# Altium footprint library alientek_sch_lib.PcbLib: 370 footprints (part 5 of 24)
Each footprint in its own frame and in the unit in brackets; x right, y up, seen from the top. Pads: shape width x height; smd on the part's side, far side on the other; paste and mask are expansions set on the pad; w line width, h text height; cw(c..) or ccw(c..) is an arc to the next point about the centre after c.
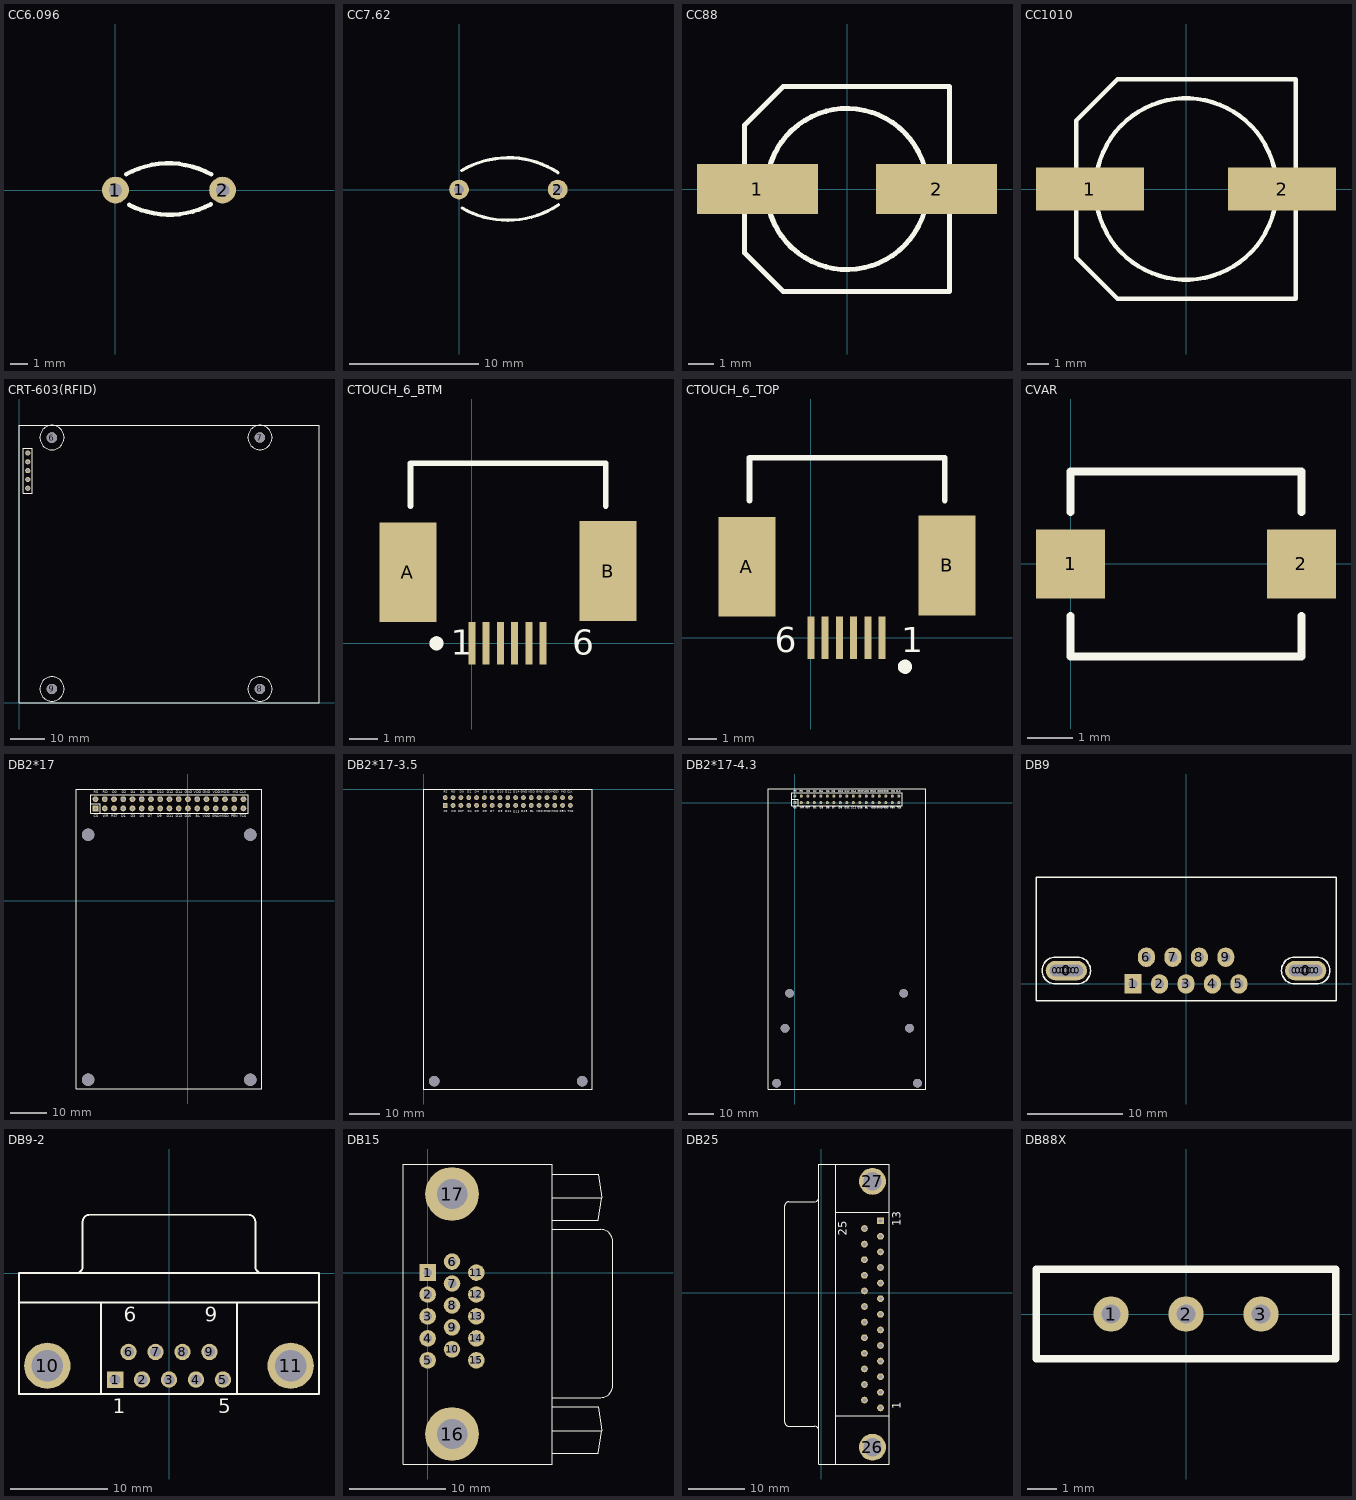
[diagram p4: the footprints below, top view; thin cyan lines are the x and y axes]

## CC6.096 [mil]
height 354.33
pads (2):
  round 60 hole 30: 1(0,0) 2(240,0)
Top Overlay:
  lines w10: 24.43,35.56 cw(c119.21,-136.97) 215,35 ; 30.81,-33.42 ccw(c120.66,141.73) 213.36,-31.93

## CC7.62 [mil]
height 472.44
pads (2):
  round 60 hole 30: 1(0,0) 2(300,0)
Top Overlay:
  lines w10: 8.27,57.9 cw(c149.46,-178.78) 300.95,51.44 ; 9.4,-56.03 ccw(c148.05,182.14) 302.41,-46.17

## CC88 [mm] "SMD;W:8mm;L:8mm;"
height 10
pads (2):
  rect 4.8x2 smd: 1(-3.556,0) 2(3.556,0)
Top Overlay:
  circle w0.2: c0,0 r3.2
  lines w0.2: -1.905,4.064 -2.54,4.064 ; -2.54,4.064 -4.064,2.54 -4.064,-2.54 -2.54,-4.064 4.064,-4.064 4.064,4.064 -2.54,4.064

## CC1010 [mm] "SMD;W:10mm;L:10mm;"
height 10
pads (2):
  rect 5x2 smd: 1(-4.445,0) 2(4.445,0)
Top Overlay:
  circle w0.2: c0,0 r4.2
  lines w0.2: -5.08,2.921 -5.08,3.175 ; -5.08,3.175 -5.08,-3.175 -3.175,-5.08 5.08,-5.08 5.08,5.08 -3.175,5.08 -5.08,3.175

## CRT-603(RFID) [mm] "RFID,"
pads (9):
  round 1.5 hole 0.9: 1(2.54,72) 2(2.54,69.46) 3(2.54,66.92) 4(2.54,64.38) 5(2.54,61.84)
  round 3 hole 3: 6(9.5,76.454) 7(69.469,76.468) 8(69.469,3.968) 9(9.5,3.968)
Top Overlay:
  circle w0.178: c69.469,76.468 r3.5
  circle w0.178: c9.5,76.454 r3.5
  circle w0.178: c9.5,3.968 r3.5
  circle w0.178: c69.469,3.968 r3.5
  lines w0.254: 0,0 0,80 86.5,80 86.5,0 0,0 ; 1.27,60.452 3.81,60.452 3.81,73.406 1.27,73.406 1.27,60.452

## CTOUCH_6_BTM [mm]
pads (8):
  rect 0.25x1.5 smd: 1(0,0) 2(0.5,0) 3(1,0) 4(1.5,0) 5(2,0) 6(2.5,0)
  rect 2x3.5 smd: A(-2.25,2.5) B(4.786,2.54)
Top Overlay:
  circle w0.25: c-1.243,0 r0.125
  lines w0.203: -2.159,4.826 -2.159,6.325 -1.214,6.325 4.699,6.325 4.699,4.826
  text "6" at 3.531,-0.406 h0.89
  text "1" at -0.737,-0.406 h0.89

## CTOUCH_6_TOP [mm]
pads (8):
  rect 0.25x1.5 smd: 1(2.5,0) 2(2,0) 3(1.5,0) 4(1,0) 5(0.5,0) 6(0,0)
  rect 2x3.5 smd: A(-2.25,2.5) B(4.786,2.54)
Top Overlay:
  circle w0.25: c3.304,-1.016 r0.125
  lines w0.203: -2.159,4.826 -2.159,6.325 -1.214,6.325 4.699,6.325 4.699,4.826
  text "6" at -1.27,-0.508 h0.89
  text "1" at 3.175,-0.508 h0.89

## CVAR [mil] "4MM*6.6MM"
pads (2):
  rect 60x60 smd: 1(0,0) 2(200,0)
Top Overlay:
  lines w7: 0,-45 0,-80 200,-80 200,-45 ; 0,45 0,80 200,80 200,45

## DB2*17 [mil] "DB_LCD-2.4'/2.8'"
height 590.55
pads (38):
  rect 62x62 hole 35: 1(-1000,1000)
  round 62 hole 35: 2(-1000,1100) 3(-900,1000) 4(-900,1100) 5(-800,1000) 6(-800,1100) 7(-700,1000) 8(-700,1100) 9(-600,1000) 10(-600,1100) 11(-500,1000) 12(-500,1100) 13(-400,1000) 14(-400,1100) 15(-300,1000) 16(-300,1100) 17(-200,1000) 18(-200,1100) 19(-100,1000) 20(-100,1100) 21(0,1000) 22(0,1100) 23(100,1000) 24(100,1100) 25(200,1000) 26(200,1100) 27(300,1000) 28(300,1100) 29(400,1000) 30(400,1100) 31(500,1000) 32(500,1100) 33(600,1000) 34(600,1100)
  round 133.86 hole 133.86: ""(-1080,-1935) ""(-1080,715) ""(675,-1935) ""(675,715)
Top Overlay:
  lines w6: -1050,1050 -950,1050 -950,950 ; -1050,950 -1050,1150 650,1150 650,950 -1050,950
  lines w10: -1210,-2030 -1205,-2035 800,-2035 800,1210 -625,1210 -1210,1210 -1210,-2030
  text "D14" at -132.87,1161.42 h28
  text "D7" at -433.07,905.51 h28
  text "RS" at -1018.7,1161.42 h28
  text "CS" at -1018.7,905.51 h28
  text "WR" at -920.28,905.51 h28
  text "RST" at -831.69,905.51 h28
  text "D1" at -723.43,905.51 h28
  text "D2" at -718.5,1161.42 h28
  text "D3" at -620.08,905.51 h28
  text "D4" at -620.08,1161.42 h28
  text "D5" at -521.65,905.51 h28
  text "D6" at -516.73,1161.42 h28
  text "D8" at -433.07,1161.42 h28
  text "D9" at -329.72,905.51 h28
  text "D13" at -132.87,905.51 h28
  text "D12" at -231.3,1161.42 h28
  text "D15" at -34.45,905.51 h28
  text "VDD" at 162.4,905.51 h28
  text "VDD" at 265.75,1161.42 h28
  text "GND" at 162.4,1161.42 h28
  text "VDD" at 63.98,1161.42 h28
  text "D10" at -334.65,1161.42 h28
  text "D0" at -816.93,1161.42 h28
  text "RD" at -920.28,1161.42 h28
  text "GND" at -34.45,1161.42 h28
  text "GND" at 260.83,905.51 h28
  text "D11" at -231.3,905.51 h28
  text "PEN" at 467.52,905.51 h28.03
  text "CLK" at 561.02,1161.42 h28.03
  text "MOSI" at 354.33,1161.42 h28.03
  text "MO" at 482.28,1161.42 h28.03
  text "TCS" at 561.02,905.51 h28.03
  text "MISO" at 349.41,905.51 h28.03
  text "BL" at 83.66,905.51 h28

## DB2*17-3.5 [mil] "DB_LCD-3.5'"
height 590.55
pads (36):
  rect 62x62 hole 35: 1(275,-210)
  round 62 hole 35: 2(275,-110) 3(375,-210) 4(375,-110) 5(475,-210) 6(475,-110) 7(575,-210) 8(575,-110) 9(675,-210) 10(675,-110) 11(775,-210) 12(775,-110) 13(875,-210) 14(875,-110) 15(975,-210) 16(975,-110) 17(1075,-210) 18(1075,-110) 19(1175,-210) 20(1175,-110) 21(1275,-210) 22(1275,-110) 23(1375,-210) 24(1375,-110) 25(1475,-210) 26(1475,-110) 27(1575,-210) 28(1575,-110) 29(1675,-210) 30(1675,-110) 31(1775,-210) 32(1775,-110) 33(1875,-210) 34(1875,-110)
  round 133.86 hole 133.86: ""(135,-3735) ""(2025,-3735)
Top Overlay:
  lines w10: 0,-3835 2155,-3835 2155,0 650,0 0,0 0,-3835
  text "D14" at 1142.13,-48.58 h28
  text "D7" at 850,-300 h28
  text "RS" at 256.3,-48.58 h28
  text "CS" at 255,-300 h28
  text "WR" at 355,-300 h28
  text "RST" at 440,-300 h28
  text "D1" at 560,-300 h28
  text "D2" at 556.5,-48.58 h28
  text "D3" at 655,-300 h28
  text "D4" at 654.92,-48.58 h28
  text "D5" at 755,-300 h28
  text "D6" at 758.27,-48.58 h28
  text "D8" at 841.93,-48.58 h28
  text "D9" at 950,-300 h28
  text "D13" at 1142.13,-304.49 h28
  text "D12" at 1043.7,-48.58 h28
  text "D15" at 1245,-300 h28
  text "VDD" at 1440,-300 h28
  text "VDD" at 1540.75,-48.58 h28
  text "GND" at 1437.4,-48.58 h28
  text "VDD" at 1338.98,-48.58 h28
  text "D10" at 940.35,-48.58 h28
  text "D0" at 458.07,-48.58 h28
  text "RD" at 354.72,-48.58 h28
  text "GND" at 1240.55,-48.58 h28
  text "GND" at 1535,-300 h28
  text "D11" at 1045,-300 h28
  text "PEN" at 1740,-300 h28.03
  text "CLK" at 1836.02,-48.58 h28.03
  text "MOSI" at 1629.33,-48.58 h28.03
  text "MO" at 1757.28,-48.58 h28.03
  text "TCS" at 1840,-300 h28.03
  text "MISO" at 1625,-300 h28.03
  text "BL" at 1360,-300 h28
Bottom Overlay:
  lines w6: 225,-160 325,-160 325,-260 ; 225,-260 225,-60 1925,-60 1925,-260 225,-260
  lines w7: 235,-330 1925,-330
  text "CS" at 240,-350 h35
  text "RS" at 245,-275 h35
  text "RD" at 350,-275 h35
  text "WR" at 350,-350 h35
  text "D0" at 450,-275 h35
  text "RST" at 435,-350 h35
  text "D1" at 555,-350 h35
  text "D2" at 550,-275 h35
  text "D3" at 650,-350 h35
  text "D4" at 650,-275 h35
  text "D5" at 755,-350 h35
  text "D6" at 755,-275 h35
  text "D7" at 850,-350 h35
  text "D8" at 850,-275 h35
  text "D9" at 945,-350 h35
  text "D10" at 935,-275 h35
  text "D11" at 1035,-350 h35
  text "D12" at 1035,-275 h35
  text "D13" at 1135,-350 h35
  text "D14" at 1140,-275 h35
  text "D15" at 1240,-350 h35
  text "GND" at 1240,-275 h35
  text "BL" at 1350,-350 h35
  text "VDD" at 1345,-275 h35
  text "VDD" at 1425,-350 h35
  text "GND" at 1450,-275 h35
  text "GND" at 1530,-350 h35
  text "V5" at 1560,-275 h35
  text "MI" at 1655,-350 h35
  text "MO" at 1650,-275 h35
  text "PEN" at 1725,-350 h35
  text "NC" at 1750,-275 h35
  text "TCS" at 1835,-350 h35
  text "CLK" at 1835,-275 h35

## DB2*17-4.3 [mm] "DB_LCD-4.3'"
height 15
pads (40):
  rect 1.2x1.2 hole 0.7: 1(-0.002,0.006)
  round 1.2 hole 0.7: 2(-0.002,2.546) 3(2.538,0.006) 4(2.538,2.546) 5(5.08,0) 6(5.078,2.546) 7(7.62,0) 8(7.62,2.54) 9(10.158,0.006) 10(10.158,2.546) 11(12.698,0.006) 12(12.698,2.546) 13(15.238,0.006) 14(15.238,2.546) 15(17.778,0.006) 16(17.778,2.546) 17(20.318,0.006) 18(20.318,2.546) 19(22.858,0.006) 20(22.858,2.546) 21(25.398,0.006) 22(25.398,2.546) 23(27.938,0.006) 24(27.938,2.546) 25(30.478,0.006) 26(30.478,2.546) 27(33.018,0.006) 28(33.018,2.546) 29(35.558,0.006) 30(35.558,2.546) 31(38.098,0.006) 32(38.098,2.546) 33(40.638,0.006) 34(40.638,2.546)
  round 3.4 hole 3.4: ""(-7.125,-109.596) ""(-3.81,-88.18) ""(-2.037,-74.525) ""(42.54,-74.525) ""(44.82,-88.12) ""(47.925,-109.596)
Top Overlay:
  lines w0.203: -1.27,1.27 1.27,1.27 1.27,-1.23 1.32,-1.28 -1.26,-1.28 -1.27,-1.27 -1.27,3.82 41.91,3.82 41.91,-1.26 ; 1.21,-1.28 41.91,-1.28 ; 41.91,-1.25 41.91,-0.95
  lines w0.254: -10.403,5.334 -10.403,-111.887 51.192,-111.887 51.192,5.334 ; -10.38,5.334 51.17,5.334
  text "D14" at 22.023,4.106 h0.71
  text "D7" at 14.603,-2.28 h0.71
  text "RS" at -0.477,4.106 h0.71
  text "CS" at -0.51,-2.28 h0.71
  text "WR" at 2.03,-2.28 h0.71
  text "RST" at 4.189,-2.28 h0.71
  text "D1" at 7.237,-2.28 h0.71
  text "D2" at 7.148,4.106 h0.71
  text "D3" at 9.65,-2.28 h0.71
  text "D4" at 9.648,4.106 h0.71
  text "D5" at 12.19,-2.28 h0.71
  text "D6" at 12.273,4.106 h0.71
  text "D8" at 14.398,4.106 h0.71
  text "D9" at 17.143,-2.28 h0.71
  text "D12" at 19.523,4.106 h0.71
  text "D15" at 24.636,-2.28 h0.71
  text "VDD" at 29.589,-2.28 h0.71
  text "VDD" at 32.148,4.106 h0.71
  text "GND" at 29.523,4.106 h0.71
  text "VDD" at 27.023,4.106 h0.71
  text "D10" at 16.898,4.106 h0.71
  text "D0" at 4.648,4.106 h0.71
  text "RD" at 2.023,4.106 h0.71
  text "GND" at 24.523,4.106 h0.71
  text "GND" at 32.002,-2.28 h0.71
  text "D11" at 19.556,-2.28 h0.71
  text "PEN" at 37.209,-2.28 h0.71
  text "CLK" at 39.648,4.106 h0.71
  text "MOSI" at 34.398,4.106 h0.71
  text "MO" at 37.648,4.106 h0.71
  text "TCS" at 39.749,-2.28 h0.71
  text "MISO" at 34.288,-2.28 h0.71
  text "BL" at 27.557,-2.28 h0.71
  text "D14" at 22.025,4.1 h0.71
  text "D7" at 14.605,-2.286 h0.71
  text "RS" at -0.475,4.1 h0.71
  text "CS" at -0.508,-2.286 h0.71
  text "WR" at 2.032,-2.286 h0.71
  text "RST" at 4.191,-2.286 h0.71
  text "D1" at 7.239,-2.286 h0.71
  text "D2" at 7.15,4.1 h0.71
  text "D3" at 9.652,-2.286 h0.71
  text "D4" at 9.65,4.1 h0.71
  text "D5" at 12.192,-2.286 h0.71
  text "D6" at 12.275,4.1 h0.71
  text "D8" at 14.4,4.1 h0.71
  text "D9" at 17.145,-2.286 h0.71
  text "D13" at 22.025,-2.296 h0.71
  text "D12" at 19.525,4.1 h0.71
  text "D15" at 24.638,-2.286 h0.71
  text "VDD" at 29.591,-2.286 h0.71
  text "VDD" at 32.15,4.1 h0.71
  text "GND" at 29.525,4.1 h0.71
  text "VDD" at 27.025,4.1 h0.71
  text "D10" at 16.9,4.1 h0.71
  text "D0" at 4.65,4.1 h0.71
  text "RD" at 2.025,4.1 h0.71
  text "GND" at 24.525,4.1 h0.71
  text "GND" at 32.004,-2.286 h0.71
  text "D11" at 19.558,-2.286 h0.71
  text "PEN" at 37.211,-2.286 h0.71
  text "CLK" at 39.65,4.1 h0.71
  text "MOSI" at 34.4,4.1 h0.71
  text "MO" at 37.65,4.1 h0.71
  text "TCS" at 39.751,-2.286 h0.71
  text "MISO" at 34.29,-2.286 h0.71
  text "BL" at 27.559,-2.286 h0.71

## DB9 [mil]
pads (25):
  round 50 hole 50: 0(-538,55) 0(-523,55) 0(-508,55) 0(-493,55) 0(-478,55) 0(-463,55) 0(-448,55) 0(448,55) 0(463,55) 0(478,55) 0(493,55) 0(508,55) 0(523,55) 0(538,55)
  oval 170x80 hole 50: 0(-493,55) 0(493,55)
  rect 70x80 hole 38: 1(-218,0)
  oval 70x80 hole 38: 2(-109,0) 3(0,0) 4(109,0) 5(218,0) 6(-163,110) 7(-54,110) 8(55,110) 9(164,110)
Top Overlay:
  lines w6: -618,-70 -618,440 618,440 618,-70 -618,-70 ; -538,0 cw(c-538,55) -538,110 -448,110 cw(c-448,55) -448,0 -538,0 ; 448,0 cw(c448,55) 448,110 538,110 cw(c538,55) 538,0 448,0

## DB9-2 [mm] "Connector; D Subminiature; 9 Position; Right Angle; Pitch 1.385 mm"
height 12.75
pads (11):
  rect 1.69x1.69 hole 1.09: 1(-5.54,-10.92)
  round 1.69 hole 1.09: 2(-2.77,-10.92) 3(0,-10.92) 4(2.77,-10.92) 5(5.54,-10.92) 6(-4.155,-8.08) 7(-1.385,-8.08) 8(1.385,-8.08) 9(4.155,-8.08)
  round 4.76 hole 3.26: 10(-12.495,-9.5) 11(12.495,-9.5)
Top Overlay:
  lines w0.2: -15.4,-3 15.4,-3 ; -9.56,0.005 ccw(c-9.56,0.7) -8.865,0.7 -8.865,5.3 ; -8.86,5.305 cw(c-8.165,5.305) -8.165,6 8.165,6 cw(c8.165,5.305) 8.86,5.305 ; -7,-12.4 -7,-3 ; 7,-12.4 7,-3 ; 8.865,5.3 8.865,0.7 ccw(c9.56,0.7) 9.56,0.005 ; -15.4,-12.4 15.4,-12.4 15.4,0 -15.4,0 -15.4,-12.4
  text "6" at -4.655,-4.975 h1.5
  text "9" at 3.655,-4.975 h1.5
  text "5" at 5.04,-14.375 h1.5
  text "1" at -5.79,-14.375 h1.5

## DB15 [mil] "VGA-15"
height 314.96
pads (17):
  rect 68x68 hole 35: 1(0,0)
  round 68 hole 35: 2(0,-90) 3(0,-180) 4(0,-270) 5(0,-360) 6(100,45) 7(100,-45) 8(100,-135) 9(100,-225) 10(100,-315) 11(200,0) 12(200,-90) 13(200,-180) 14(200,-270) 15(200,-360)
  round 220 hole 125: 16(100,-662) 17(100,322)
Top Overlay:
  lines w5: 510,-504 510,136 ; 510.24,441 510.24,445 ; 511,-740 699,-740 713,-648 ; 511,-648 713,-648 ; 511,-550 699,-550 713,-648 ; 511,-512.49 709,-512.49 ccw(c709,-462.49) 759,-462.49 759,126.49 ccw(c709,126.49) 709,176.49 511,176.49 ; 511,214 699,214 713,306 ; 511,306 713,306 ; 511,404 699,404 713,306 ; 510.24,445 -100,445 -100,-785 510.24,-785 510.24,445

## DB25 [mm]
height 15
pads (27):
  rect 1.2x1.2 hole 0.635: 1(10.488,12.781)
  round 1.2 hole 0.635: 2(10.488,10.02) 3(10.488,7.259) 4(10.488,4.498) 5(10.488,1.737) 6(10.488,-1.024) 7(10.488,-3.785) 8(10.488,-6.546) 9(10.488,-9.307) 10(10.488,-12.068) 11(10.488,-14.829) 12(10.488,-17.59) 13(10.488,-20.351) 14(7.648,11.401) 15(7.648,8.64) 16(7.648,5.879) 17(7.648,3.118) 18(7.648,0.357) 19(7.648,-2.404) 20(7.648,-5.165) 21(7.648,-7.926) 22(7.648,-10.687) 23(7.648,-13.448) 24(7.648,-16.209) 25(7.648,-18.97)
  round 4.76 hole 3.26: 26(9.068,-27.311) 27(9.068,19.741)
Top Overlay:
  lines w0.2: -5.737,-23.626 cw(c-5.737,-22.931) -6.432,-22.931 -6.432,15.469 cw(c-5.737,15.469) -5.737,16.164 ; -5.732,-23.631 -1.132,-23.631 cw(c-1.132,-24.326) -0.437,-24.326 ; -5.732,16.169 -1.132,16.169 ccw(c-1.132,16.864) -0.437,16.864 ; 2.568,-30.281 2.568,22.819 ; 2.568,-21.731 12.068,-21.731 ; 2.568,14.269 12.068,14.269 ; -0.432,-30.281 -0.432,22.819 12.068,22.819 12.068,-30.281 -0.432,-30.281
  text "1" at 14.043,-20.601 h1.5
  text "13" at 14.046,11.836 h1.5
  text "25" at 4.543,10.151 h1.5

## DB88X [mm]
height 18
pads (3):
  round 1.2 hole 0.635: 1(-2.54,0) 2(0,0) 3(2.54,0)
Top Overlay:
  lines w0.254: 0.254,1.524 5.08,1.524 5.08,-1.524 -5.08,-1.524 -5.08,1.524 0.635,1.524